# Altium schematic symbol library Motor.SchLib: 1 symbol
Pins are listed as number, name and electrical type; pins without a type are passive.

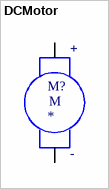
[diagram p0: symbol DCMotor]

## DCMotor
designator M?
Generic DC motor
footprint CABLE-TERMINAL1x2 (Cable to board terminal, 1x2, 1.5mm pitch); pin to pad +>1 ->2
pins: +, -
text: M